# EAGLE library part PJRAN2XIU0 (library switchcraft)
RCA Jack, Right Angle, 2 Position, PC Mount, Unshielded
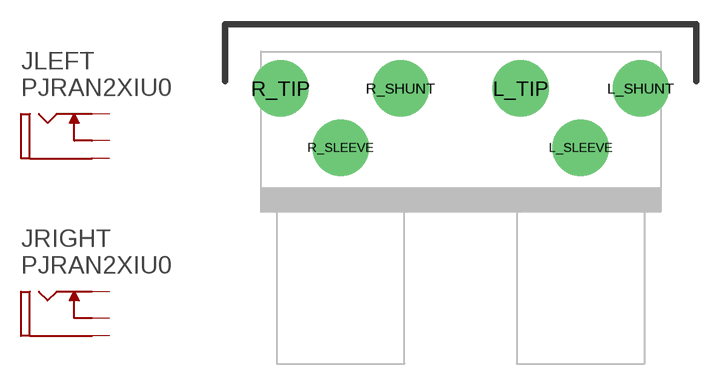
[diagram p0: symbol with the pads of PJRAN2X1U; footprint PJRAN2X1U]

Designator prefix J; gates LEFT=RCA-SHUNTED RIGHT=RCA-SHUNTED

## PJRAN2XIU01AUX  [PJRAN2X1U]
L_SHUNT  LEFT:SHUNT
L_SLEEVE  LEFT:SLEEVE
L_TIP  LEFT:TIP
R_SHUNT  RIGHT:SHUNT
R_SLEEVE  RIGHT:SLEEVE
R_TIP  RIGHT:TIP

## Footprint PJRAN2X1U (pad centres in mm)
drill 2.5: L_SHUNT 11.25,3.7; L_SLEEVE 7.5,0; L_TIP 3.75,3.7; R_SHUNT -3.75,3.7; R_SLEEVE -7.5,0; R_TIP -11.25,3.7